# Altium footprint library SPST-NC Relay - TE.PcbLib: 1 footprints
Each footprint in its own frame and in the unit in brackets; x right, y up, seen from the top. Pads: shape width x height; smd on the part's side, far side on the other; paste and mask are expansions set on the pad; w line width, h text height; cw(c..) or ccw(c..) is an arc to the next point about the centre after c.
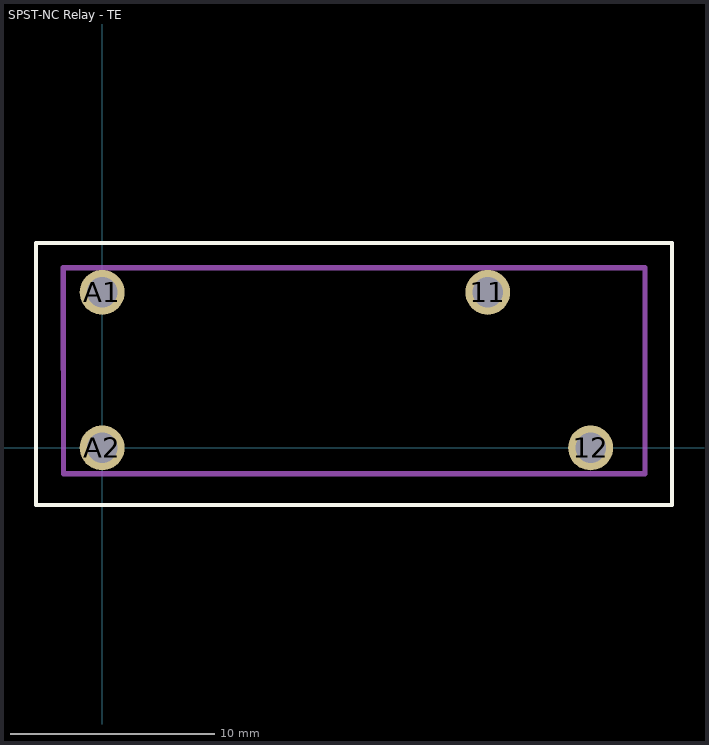
[diagram p0: the footprint, top view; thin cyan lines are the x and y axes]

## SPST-NC Relay - TE [mm] "PB1714-ND /    RYA50012"
pads (4):
  round 2.2 hole 1.5: 11(18.9,7.62) 12(23.94,0) A1(0,7.62) A2(0,0)
Top Overlay:
  lines w0.2: -3.25,-2.794 -3.25,10.033 27.94,10.033 27.94,-2.794 -3.25,-2.794
Mechanical 1:
  lines w0.254: 26.543,-1.27 -1.9,-1.27 -1.905,8.83 26.543,8.83 ; 26.6,-1.27 26.6,8.83
3D body: height 12.3, standoff 0, extent -1.903,-1.206 26.543,8.83